# Altium footprint library hexgon_PCB_V2.PcbLib: 10 footprints
Each footprint in its own frame and in the unit in brackets; x right, y up, seen from the top. Pads: shape width x height; smd on the part's side, far side on the other; paste and mask are expansions set on the pad; w line width, h text height; cw(c..) or ccw(c..) is an arc to the next point about the centre after c.
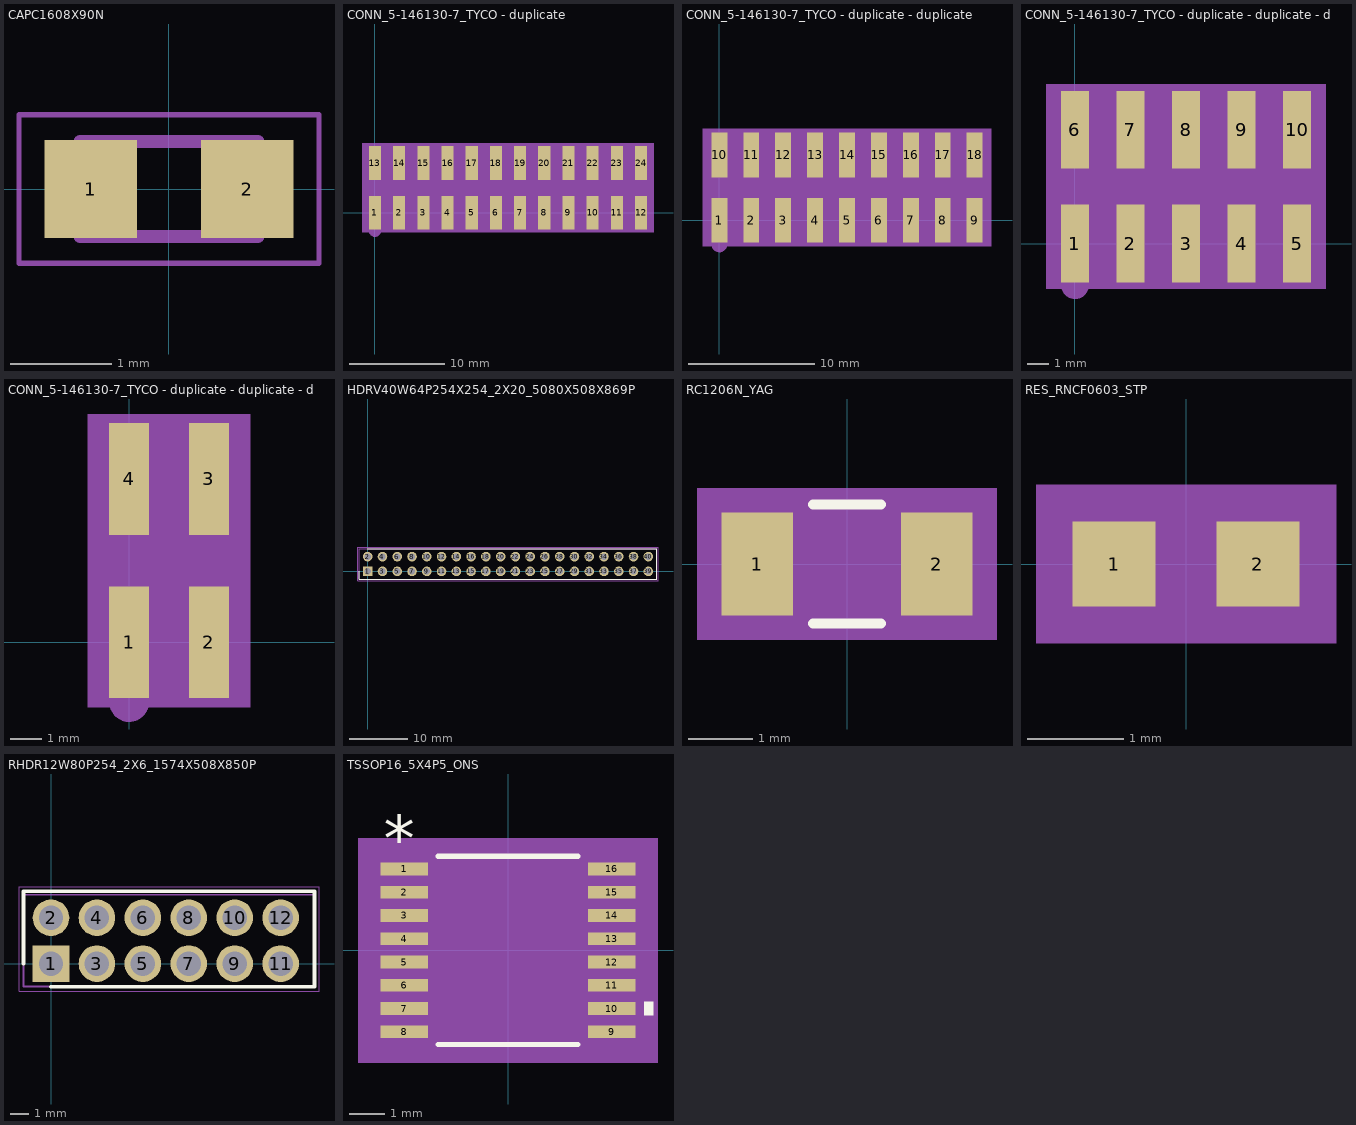
[diagram p0: the footprints below, top view; thin cyan lines are the x and y axes]

## CAPC1608X90N [mm]
pads (2):
  rect 0.92x0.97 smd: 1(-0.775,0) 2(0.775,0)
Mechanical 13:
  lines w0.127: -0.88,-0.47 -0.88,0.47 0.88,0.47 0.88,-0.47 -0.88,-0.47
Mechanical 15:
  lines w0.05: -1.485,-0.735 -1.485,0.735 1.485,0.735 1.485,-0.735 -1.485,-0.735
3D body "step_temp.STEP": height 0.95, standoff 0, extent -0.8,-0.4 0.8,0.4

## CONN_5-146130-7_TYCO - duplicate [mm]
pads (24):
  rect 1.27x3.56 smd mask+0.102: 1(0,0) 2(2.54,0) 3(5.08,0) 4(7.62,0) 5(10.16,0) 6(12.7,0) 7(15.24,0) 8(17.78,0) 9(20.32,0) 10(22.86,0) 11(25.4,0) 12(27.94,0) 13(0,5.207) 14(2.54,5.207) 15(5.08,5.207) 16(7.62,5.207) 17(10.16,5.207) 18(12.7,5.207) 19(15.24,5.207) 20(17.78,5.207) 21(20.32,5.207) 22(22.86,5.207) 23(25.4,5.207) 24(27.94,5.207)
Bottom Overlay:
  circle w0.508: c0,-1.905 r0.381
Mechanical 13:
  circle w0.508: c0,-1.905 r0.381
Mechanical 15:
  region: 29.261,7.277 -1.321,7.277 -1.321,-2.07 29.261,-2.07
3D body: height 0.25, standoff 0, extent 0,0 0.254,0.254

## CONN_5-146130-7_TYCO - duplicate - duplicate [mm]
pads (18):
  rect 1.27x3.56 smd mask+0.102: 1(0,0) 2(2.54,0) 3(5.08,0) 4(7.62,0) 5(10.16,0) 6(12.7,0) 7(15.24,0) 8(17.78,0) 9(20.32,0) 10(0,5.207) 11(2.54,5.207) 12(5.08,5.207) 13(7.62,5.207) 14(10.16,5.207) 15(12.7,5.207) 16(15.24,5.207) 17(17.78,5.207) 18(20.32,5.207)
Bottom Overlay:
  circle w0.508: c0,-1.905 r0.381
Mechanical 13:
  circle w0.508: c0,-1.905 r0.381
Mechanical 15:
  region: 21.641,7.277 -1.321,7.277 -1.321,-2.07 21.641,-2.07
3D body: height 0.25, standoff 0, extent 0,0 0.254,0.254

## CONN_5-146130-7_TYCO - duplicate - duplicate - duplicate [mm]
pads (10):
  rect 1.27x3.56 smd mask+0.102: 1(0,0) 2(2.54,0) 3(5.08,0) 4(7.62,0) 5(10.16,0) 6(0,5.207) 7(2.54,5.207) 8(5.08,5.207) 9(7.62,5.207) 10(10.16,5.207)
Bottom Overlay:
  circle w0.508: c0,-1.905 r0.381
Mechanical 13:
  circle w0.508: c0,-1.905 r0.381
Mechanical 15:
  region: 11.481,7.277 -1.321,7.277 -1.321,-2.07 11.481,-2.07
3D body: height 0.25, standoff 0, extent 0,0 0.254,0.254

## CONN_5-146130-7_TYCO - duplicate - duplicate - duplicate - duplicate [mm]
pads (4):
  rect 1.27x3.56 smd mask+0.102: 1(0,0) 2(2.54,0) 3(2.54,5.207) 4(0,5.207)
Bottom Overlay:
  circle w0.508: c0,-1.905 r0.381
Mechanical 13:
  circle w0.508: c0,-1.905 r0.381
Mechanical 15:
  region: 3.861,7.277 -1.321,7.277 -1.321,-2.07 3.861,-2.07
3D body: height 0.25, standoff 0, extent 0,0 0.254,0.254

## HDRV40W64P254X254_2X20_5080X508X869P [mm]
pads (40):
  rect 1.65x1.65 hole 1.1: 1(0,0)
  round 1.65 hole 1.1: 2(0,2.54) 3(2.54,0) 4(2.54,2.54) 5(5.08,0) 6(5.08,2.54) 7(7.62,0) 8(7.62,2.54) 9(10.16,0) 10(10.16,2.54) 11(12.7,0) 12(12.7,2.54) 13(15.24,0) 14(15.24,2.54) 15(17.78,0) 16(17.78,2.54) 17(20.32,0) 18(20.32,2.54) 19(22.86,0) 20(22.86,2.54) 21(25.4,0) 22(25.4,2.54) 23(27.94,0) 24(27.94,2.54) 25(30.48,0) 26(30.48,2.54) 27(33.02,0) 28(33.02,2.54) 29(35.56,0) 30(35.56,2.54) 31(38.1,0) 32(38.1,2.54) 33(40.64,0) 34(40.64,2.54) 35(43.18,0) 36(43.18,2.54) 37(45.72,0) 38(45.72,2.54) 39(48.26,0) 40(48.26,2.54)
Top Overlay:
  lines w0.2: -1.42,0 -1.42,-1.345 49.68,-1.345 49.68,3.885 0,3.885
Mechanical 13:
  lines w0.1: -1.42,-1.345 49.68,-1.345 49.68,3.885 -1.42,3.885 -1.42,-1.345
Mechanical 15:
  lines w0.05: -1.67,-1.595 49.93,-1.595 49.93,4.135 -1.67,4.135 -1.67,-1.595
3D body: height 8.69, standoff -3.2, extent -1.27,-1.27 49.53,3.81

## RC1206N_YAG [mil]
pads (2):
  rect 44x63 smd paste+0 mask+0: 1(-55,0) 2(55,0)
Top Overlay:
  lines w6: -20.89,-36.5 20.89,-36.5 ; -20.89,36.5 20.89,36.5
Mechanical 5:
  region: 92,-46.5 -92,-46.5 -92,46.5 92,46.5
Mechanical 13:
  lines w1: -63,-31.5 -63,31.5 ; -63,-31.5 63,-31.5 ; -63,-31.5 -33,-31.5 -33,31.5 -63,31.5 ; -63,-31.5 -63,31.5 ; -63,31.5 63,31.5 ; 63,-31.5 63,31.5 ; 63,-31.5 63,31.5 ; 63,-31.5 33,-31.5 33,31.5 63,31.5
Mechanical 15:
  region: 87,-41.5 -87,-41.5 -87,41.5 87,41.5
  lines w6: -87,-41.5 87,-41.5 87,41.5 -87,41.5 -87,-41.5
3D body: height 27.99, standoff 0, extent -62.99,-31.5 62.99,31.5

## RES_RNCF0603_STP [mil]
pads (2):
  rect 34x35 smd paste+0 mask+0: 1(-29.5,0) 2(29.5,0)
Mechanical 5:
  region: 61.5,-32.5 -61.5,-32.5 -61.5,32.5 61.5,32.5
Mechanical 13:
  lines w1: -32.5,-17.5 -32.5,17.5 ; -32.5,-17.5 32.5,-17.5 ; -32.5,-17.5 -12.5,-17.5 -12.5,17.5 -32.5,17.5 ; -32.5,-17.5 -32.5,17.5 ; -32.5,17.5 32.5,17.5 ; 32.5,-17.5 32.5,17.5 ; 32.5,-17.5 32.5,17.5 ; 32.5,-17.5 12.5,-17.5 12.5,17.5 32.5,17.5
Mechanical 15:
  region: 56.5,-27.5 -56.5,-27.5 -56.5,27.5 56.5,27.5
  lines w6: -56.5,-27.5 56.5,-27.5 56.5,27.5 -56.5,27.5 -56.5,-27.5
3D body: height 22.01, standoff 0, extent -32.52,-17.48 32.52,17.48

## RHDR12W80P254_2X6_1574X508X850P [mm]
pads (12):
  rect 2.025x2.025 hole 1.35: 1(0,0)
  round 2.025 hole 1.35: 2(0,2.54) 3(2.54,0) 4(2.54,2.54) 5(5.08,0) 6(5.08,2.54) 7(7.62,0) 8(7.62,2.54) 9(10.16,0) 10(10.16,2.54) 11(12.7,0) 12(12.7,2.54)
Top Overlay:
  lines w0.2: -1.52,0 -1.52,3.995 14.57,3.995 14.57,-1.27 0,-1.27
Mechanical 13:
  lines w0.1: -1.52,-1.27 -1.52,3.81 14.57,3.81 14.57,-1.27 -1.52,-1.27
Mechanical 15:
  lines w0.05: -1.77,-1.52 -1.77,4.245 14.82,4.245 14.82,-1.52 -1.77,-1.52
3D body: height 8.5, standoff -3.5, extent -1.52,-1.27 14.22,3.81

## TSSOP16_5X4P5_ONS [mil]
pads (16):
  rect 52x14 smd paste+0 mask+0: 1(-114,89.57) 2(-114,63.98) 3(-114,38.38) 4(-114,12.79) 5(-114,-12.8) 6(-114,-38.39) 7(-114,-63.98) 8(-114,-89.57) 9(114,-89.57) 10(114,-63.98) 11(114,-38.39) 12(114,-12.8) 13(114,12.79) 14(114,38.38) 15(114,63.98) 16(114,89.57)
Top Overlay:
  region: 150,-56.48 160,-56.48 160,-71.48 150,-71.48
  lines w6: -76.88,-103.5 76.89,-103.5 ; -76.88,103.5 76.89,103.5
  text "*" at -136.5,98.57 h50
Mechanical 5:
  region: 165,-123.5 -165,-123.5 -165,123.5 165,123.5
Mechanical 13:
  lines w0: -12,98.5 ccw(c0,98.5) 12,98.5
  lines w1: -126,-95.57 -126,-83.57 -86.5,-83.57 -86.5,-95.57 -126,-95.57 ; -126,-69.98 -126,-57.98 -86.5,-57.98 -86.5,-69.98 -126,-69.98 ; -126,-44.39 -126,-32.39 -86.5,-32.39 -86.5,-44.39 -126,-44.39 ; -126,-18.8 -126,-6.8 -86.5,-6.8 -86.5,-18.8 -126,-18.8 ; -126,6.79 -126,18.79 -86.5,18.79 -86.5,6.79 -126,6.79 ; -126,32.38 -126,44.38 -86.5,44.38 -86.5,32.38 -126,32.38 ; -126,57.98 -126,69.98 -86.5,69.98 -86.5,57.98 -126,57.98 ; -126,83.57 -126,95.57 -86.5,95.57 -86.5,83.57 -126,83.57 ; -86.5,-98.5 86.5,-98.5 86.5,98.5 -86.5,98.5 -86.5,-98.5 ; 86.5,-95.57 86.5,-83.57 126,-83.57 126,-95.57 86.5,-95.57 ; 86.5,-69.98 86.5,-57.98 126,-57.98 126,-69.98 86.5,-69.98 ; 86.5,-44.39 86.5,-32.39 126,-32.39 126,-44.39 86.5,-44.39 ; 86.5,-18.8 86.5,-6.8 126,-6.8 126,-18.8 86.5,-18.8 ; 86.5,6.79 86.5,18.79 126,18.79 126,6.79 86.5,6.79 ; 86.5,32.38 86.5,44.38 126,44.38 126,32.38 86.5,32.38 ; 86.5,57.98 86.5,69.98 126,69.98 126,57.98 86.5,57.98 ; 86.5,83.57 86.5,95.57 126,95.57 126,83.57 86.5,83.57
  text "*" at -84,45.5 h50
Mechanical 15:
  region: -96.5,-106.57 -150,-106.57 -150,106.57 -96.5,106.57 -96.5,108.5 96.5,108.5 96.5,106.57 150,106.57 150,-106.57 96.5,-106.57 96.5,-108.5 -96.5,-108.5
  lines w6: -150,-106.57 -150,106.57 -96.5,106.57 -96.5,108.5 96.5,108.5 96.5,106.57 150,106.57 150,-106.57 96.5,-106.57 96.5,-108.5 -96.5,-108.5 -96.5,-106.57 -150,-106.57
3D body "TSSOP16_5X4P5_ONS.step": height 35.12, standoff 0, extent -125.98,-98.5 125.98,98.5